# Altium integrated library Linear Technology Power Management Power Control.IntLib: 661 symbols (part 42 of 43)
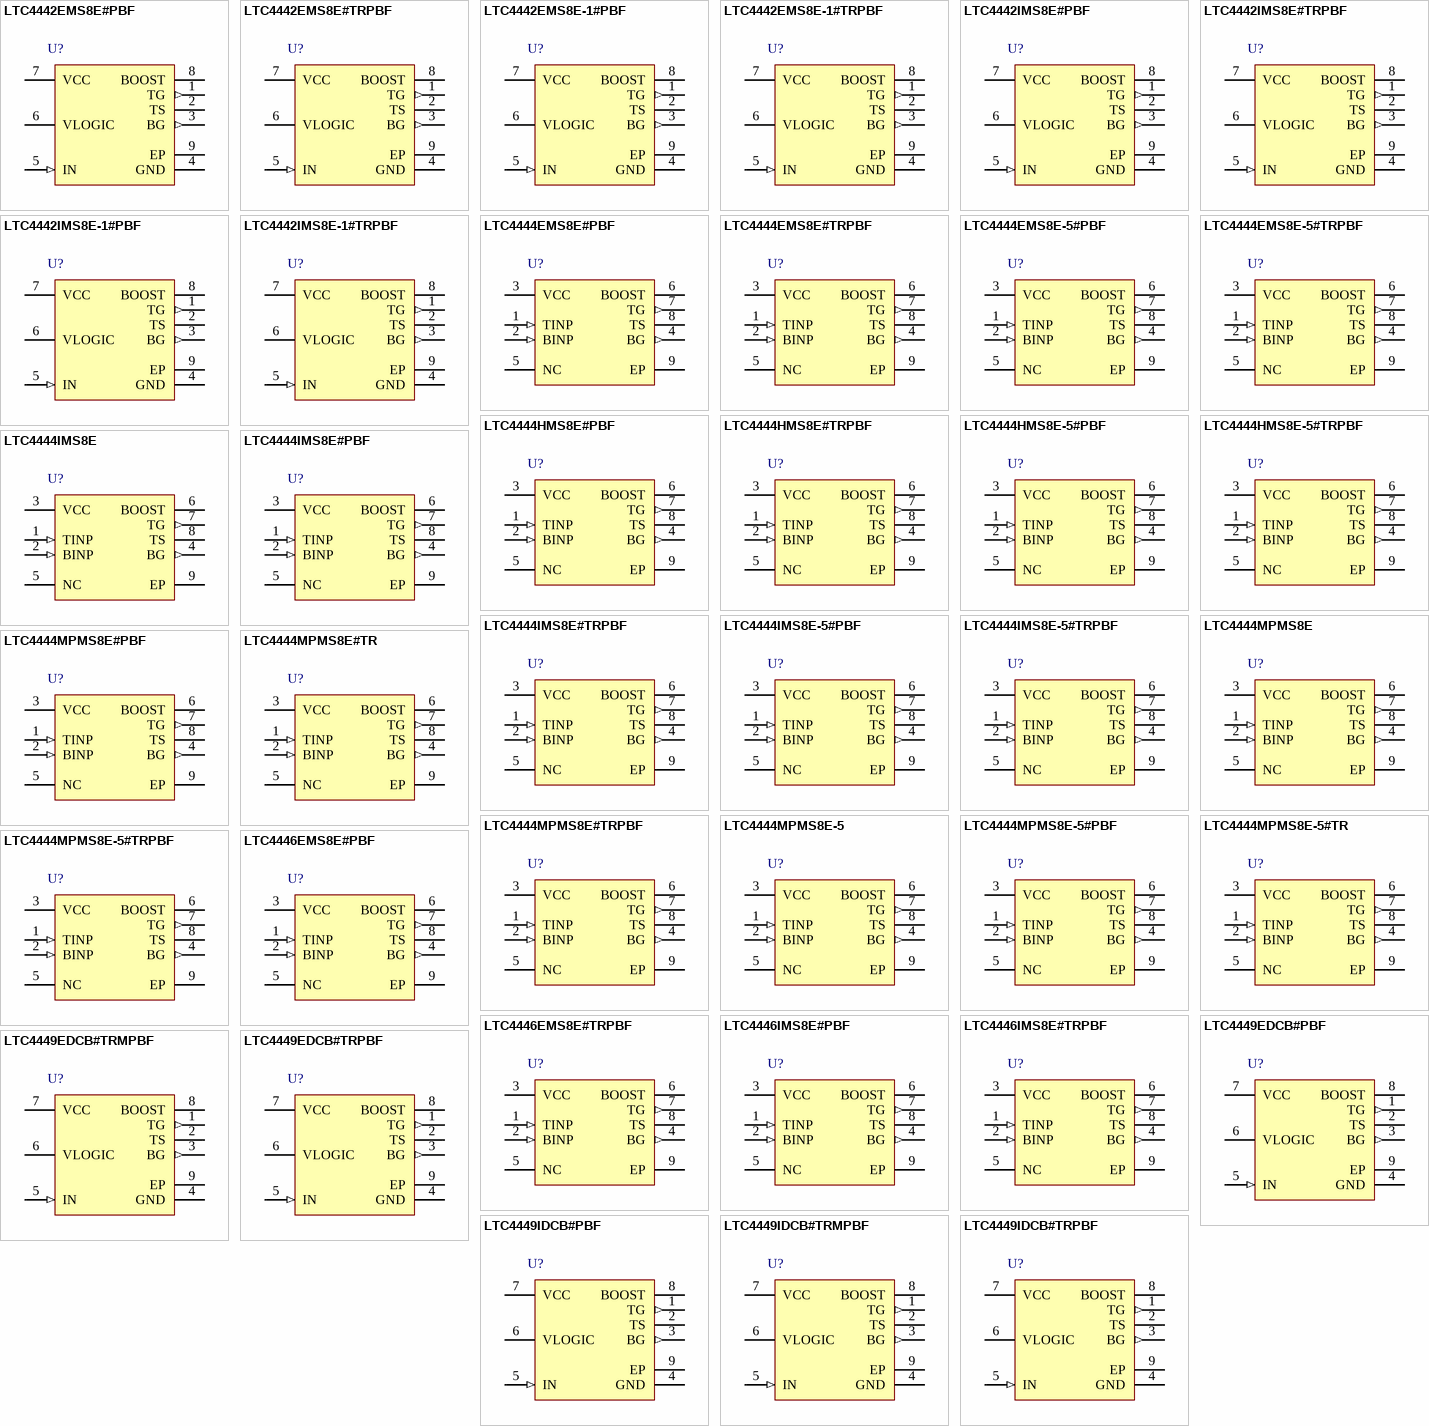
[diagram p60: symbols LTC4442EMS8E#PBF to LTC4449IDCB#TRPBF]

## LTC4442IMS8E-1#PBF
designator U?
High Speed Synchronous N-Channel MOSFET Driver, 6.2 V Undervoltage Lockout Threshold, 38 V Vin MAX, 8-pin SOP (MS8E-8), -40 to 85 degC, Pb-Free; Manufacturer: Linear Technology; PartNumber: LTC4442IMS8E-1#PBF; DatasheetVersion: Rev. B; PackageVersion: Rev. E; PackageReference: MS8E-8; PackageDescription: 8-Pin Plastic MSOP, Exposed Die Pad, Body 3 x 3 mm, Pitch 0.65 mm; Supplier 1: Digi-Key; Supplier Part Number 1: LTC4442IMS8E-1#PBF-ND; RoHS: TRUE; Mounting Technology: Surface Mount; ComponentLink1Description: Manufacturer URL; ComponentLink1URL: http://www.linear.com/; ComponentLink2Description: Datasheet; ComponentLink2URL: http://cds.linear.com/docs/en/datasheet/4442fb.pdf; ComponentLink3Description: Package Specification; ComponentLink3URL: http://cds.linear.com/docs/en/datasheet/4070fc.pdf
footprint LT-MS8E-8-2060X1830TP_N (SOP, 8-Leads, Body 3.1x3.1mm, Pitch 0.65mm, Thermal Pad 2.162x1.932mm, IPC Medium Density)
footprint LT-MS8E-8-2060X1830TP_L (SOP, 8-Leads, Body 3.1x3.1mm, Pitch 0.65mm, Thermal Pad 2.162x1.932mm, IPC High Density)
footprint LT-MS8E-8-2060X1830TP_M (SOP, 8-Leads, Body 3.1x3.1mm, Pitch 0.65mm, Thermal Pad 2.162x1.932mm, IPC Low Density)
pins: 1 TG (out) "High Side Gate Driver Output (Top Gate). This pin swings between TS and BOOST.", 2 TS "High Side MOSFET Source Connection (TopSource)", 3 BG (out) "Low Side Gate Driver Output (Bottom Gate).This pin swings between VCC and GND.", 4 GND (power) "Chip Ground.", 5 IN (in) "Input Signal. Input referenced to an internal supply baised off of VLOGIC (Pin 6) and GND. If this pin is floating, an internal resistive divider triggers a shutdown mode in which both BG (Pin 3) and TG (Pin 1) are pulled (See Datasheet)", 6 VLOGIC (power) "Logic Supply. This pin powers the input buffer and logic. Connect this pin to the power supply of the controller that is driving IN (Pin 5) to match input thresholds or to VCC (Pin 7) to simplify PCB routing", 7 VCC (power) "Output Driver Supply. This pin powers the low side gate driver output directly and the high side gate driver output through an external Schottky diode connected between this pin and BOOST. A low ESR ceramic bypass capacitor (See Datasheet)", 8 BOOST "High Side Bootstrapped Supply. An external capacitor should be tied between this pin and TS (Pin 2). Normally an external Schottky diode is connected between VCC (Pin 7) and this pin. Voltage swing at this pin is from VCC - (See Datasheet)", 9 EP (power) "The exposed pad must be soldered to PCB ground for optimal electrical and thermal performance"

## LTC4442IMS8E-1#TRPBF
designator U?
High Speed Synchronous N-Channel MOSFET Driver, 6.2 V Undervoltage Lockout Threshold, 38 V Vin MAX, 8-pin SOP (MS8E-8), -40 to 85 degC, Pb-Free, Tape and Reel; Manufacturer: Linear Technology; PartNumber: LTC4442IMS8E-1#TRPBF; DatasheetVersion: Rev. B; PackageVersion: Rev. E; PackageReference: MS8E-8; PackageDescription: 8-Pin Plastic MSOP, Exposed Die Pad, Body 3 x 3 mm, Pitch 0.65 mm; Supplier 1: Digi-Key; Supplier Part Number 1: LTC4442IMS8E-1#TRPBF-ND; Packing: Tape and Reel; RoHS: TRUE; Mounting Technology: Surface Mount; ComponentLink1Description: Manufacturer URL; ComponentLink1URL: http://www.linear.com/; ComponentLink2Description: Datasheet; ComponentLink2URL: http://cds.linear.com/docs/en/datasheet/4442fb.pdf; ComponentLink3Description: Package Specification; ComponentLink3URL: http://cds.linear.com/docs/en/datasheet/4070fc.pdf
footprint LT-MS8E-8-2060X1830TP_N (SOP, 8-Leads, Body 3.1x3.1mm, Pitch 0.65mm, Thermal Pad 2.162x1.932mm, IPC Medium Density)
footprint LT-MS8E-8-2060X1830TP_L (SOP, 8-Leads, Body 3.1x3.1mm, Pitch 0.65mm, Thermal Pad 2.162x1.932mm, IPC High Density)
footprint LT-MS8E-8-2060X1830TP_M (SOP, 8-Leads, Body 3.1x3.1mm, Pitch 0.65mm, Thermal Pad 2.162x1.932mm, IPC Low Density)
pins: 1 TG (out) "High Side Gate Driver Output (Top Gate). This pin swings between TS and BOOST.", 2 TS "High Side MOSFET Source Connection (TopSource)", 3 BG (out) "Low Side Gate Driver Output (Bottom Gate).This pin swings between VCC and GND.", 4 GND (power) "Chip Ground.", 5 IN (in) "Input Signal. Input referenced to an internal supply baised off of VLOGIC (Pin 6) and GND. If this pin is floating, an internal resistive divider triggers a shutdown mode in which both BG (Pin 3) and TG (Pin 1) are pulled (See Datasheet)", 6 VLOGIC (power) "Logic Supply. This pin powers the input buffer and logic. Connect this pin to the power supply of the controller that is driving IN (Pin 5) to match input thresholds or to VCC (Pin 7) to simplify PCB routing", 7 VCC (power) "Output Driver Supply. This pin powers the low side gate driver output directly and the high side gate driver output through an external Schottky diode connected between this pin and BOOST. A low ESR ceramic bypass capacitor (See Datasheet)", 8 BOOST "High Side Bootstrapped Supply. An external capacitor should be tied between this pin and TS (Pin 2). Normally an external Schottky diode is connected between VCC (Pin 7) and this pin. Voltage swing at this pin is from VCC - (See Datasheet)", 9 EP (power) "The exposed pad must be soldered to PCB ground for optimal electrical and thermal performance"

## LTC4444EMS8E#PBF
designator U?
High Voltage Synchronous N-Channel MOSFET Driver, 114 V Vin MAX, 8-pin SOP (MS8E-8-EDP), -40 to 125 degC, Pb-Free; Manufacturer: Linear Technology; PartNumber: LTC4444EMS8E#PBF; DatasheetVersion: Rev. B; PackageVersion: Rev. J, 10/2011; PackageReference: MS8E-8; PackageDescription: 8-Pin Plastic MSOP, Body 3.00 x 3.00 mm. Pitch 0.65 mm; Supplier 1: Digi-Key; Supplier Part Number 1: LTC4444EMS8E#PBF-ND; Supplier 2: Farnell; Supplier Part Number 2: 1628762; Supplier 3: Newark; Supplier Part Number 3: 75M4547; RoHS: TRUE; Mounting Technology: Surface Mount; ComponentLink1Description: Manufacturer URL; ComponentLink1URL: http://www.linear.com/; ComponentLink2Description: Datasheet; ComponentLink2URL: http://cds.linear.com/docs/en/datasheet/4444fb.pdf; ComponentLink3Description: Package Specification; ComponentLink3URL: http://cds.linear.com/docs/en/packaging/05081662_K_MS8E.pdf
footprint LT-MS8E-8-EDP_N (SOP, 8-Leads, Body 3.1x3.1mm, Pitch 0.65mm, Thermal Pad 1.88x1.68mm, IPC Medium Density)
footprint LT-MS8E-8-EDP_L (SOP, 8-Leads, Body 3.1x3.1mm, Pitch 0.65mm, Thermal Pad 1.88x1.68mm, IPC High Density)
footprint LT-MS8E-8-EDP_M (SOP, 8-Leads, Body 3.1x3.1mm, Pitch 0.65mm, Thermal Pad 1.88x1.68mm, IPC Low Density)
pins: 1 TINP (in) "High Side Input Signal. Input referenced to GND. This input controls the high side driver output (TG).", 2 BINP (in) "Low Side Input Signal. This input controls the low side driver output (BG).", 3 VCC (power) "Supply. This pin powers input buffers, logic and the low side gate driver output directly and the high side gate driver output through an external diode connected between this pin and BOOST (Pin 6). A low ESR ceramic bypass (See Datasheet)", 4 BG (out) "Low Side Gate Driver Output (Bottom Gate).This pin swings between VCC and GND.", 5 NC "No Connect. No connection required.", 6 BOOST "High Side Bootstrapped Supply. An external capacitor should be tied between this pin and TS (Pin 8). Normally, a bootstrap diode is connected between VCC (Pin 3) and this pin. Voltage swing at this pin is from VCC - VD to (See Datasheet)", 7 TG (out) "High Side Gate Driver Output (Top Gate). This pin swings between TS and BOOST.", 8 TS "High Side MOSFET Source Connection (TopSource)", 9 EP (power) "Ground. Must be soldered to PCB ground for optimal thermal performance."

## LTC4444EMS8E#TRPBF
designator U?
High Voltage Synchronous N-Channel MOSFET Driver, 114 V Vin MAX, 8-pin SOP (MS8E-8-EDP), -40 to 125 degC, Pb-Free, Tape and Reel; Manufacturer: Linear Technology; PartNumber: LTC4444EMS8E#TRPBF; DatasheetVersion: Rev. B; PackageVersion: Rev. J, 10/2011; PackageReference: MS8E-8; PackageDescription: 8-Pin Plastic MSOP, Body 3.00 x 3.00 mm. Pitch 0.65 mm; Supplier 1: Digi-Key; Supplier Part Number 1: LTC4444EMS8E#TRPBF-ND; Packing: Tape and Reel; RoHS: TRUE; Mounting Technology: Surface Mount; ComponentLink1Description: Manufacturer URL; ComponentLink1URL: http://www.linear.com/; ComponentLink2Description: Datasheet; ComponentLink2URL: http://cds.linear.com/docs/en/datasheet/4444fb.pdf; ComponentLink3Description: Package Specification; ComponentLink3URL: http://cds.linear.com/docs/en/packaging/05081662_K_MS8E.pdf
footprint LT-MS8E-8-EDP_N (SOP, 8-Leads, Body 3.1x3.1mm, Pitch 0.65mm, Thermal Pad 1.88x1.68mm, IPC Medium Density)
footprint LT-MS8E-8-EDP_L (SOP, 8-Leads, Body 3.1x3.1mm, Pitch 0.65mm, Thermal Pad 1.88x1.68mm, IPC High Density)
footprint LT-MS8E-8-EDP_M (SOP, 8-Leads, Body 3.1x3.1mm, Pitch 0.65mm, Thermal Pad 1.88x1.68mm, IPC Low Density)
pins: 1 TINP (in) "High Side Input Signal. Input referenced to GND. This input controls the high side driver output (TG).", 2 BINP (in) "Low Side Input Signal. This input controls the low side driver output (BG).", 3 VCC (power) "Supply. This pin powers input buffers, logic and the low side gate driver output directly and the high side gate driver output through an external diode connected between this pin and BOOST (Pin 6). A low ESR ceramic bypass (See Datasheet)", 4 BG (out) "Low Side Gate Driver Output (Bottom Gate).This pin swings between VCC and GND.", 5 NC "No Connect. No connection required.", 6 BOOST "High Side Bootstrapped Supply. An external capacitor should be tied between this pin and TS (Pin 8). Normally, a bootstrap diode is connected between VCC (Pin 3) and this pin. Voltage swing at this pin is from VCC - VD to (See Datasheet)", 7 TG (out) "High Side Gate Driver Output (Top Gate). This pin swings between TS and BOOST.", 8 TS "High Side MOSFET Source Connection (TopSource)", 9 EP (power) "Ground. Must be soldered to PCB ground for optimal thermal performance."

## LTC4444EMS8E-5#PBF
designator U?
High Voltage Synchronous N-Channel MOSFET Driver, 114 V Vin MAX, 8-pin SOP (MS8E-8-EDP), -40 to 125 degC, Pb-Free; Manufacturer: Linear Technology; PartNumber: LTC4444EMS8E-5#PBF; DatasheetVersion: Rev. C; PackageVersion: Rev. J, 10/2011; PackageReference: MS8E-8; PackageDescription: 8-Pin Plastic MSOP, Body 3.00 x 3.00 mm. Pitch 0.65 mm; Supplier 1: Digi-Key; Supplier Part Number 1: LTC4444EMS8E-5#PBF-ND; Supplier 2: Farnell; Supplier Part Number 2: 2294863; Supplier 3: Newark; Supplier Part Number 3: 01N6425; RoHS: TRUE; Mounting Technology: Surface Mount; ComponentLink1Description: Manufacturer URL; ComponentLink1URL: http://www.linear.com/; ComponentLink2Description: Datasheet; ComponentLink2URL: http://cds.linear.com/docs/en/datasheet/44445fc.pdf; ComponentLink3Description: Package Specification; ComponentLink3URL: http://cds.linear.com/docs/en/packaging/05081662_K_MS8E.pdf
footprint LT-MS8E-8-EDP_N (SOP, 8-Leads, Body 3.1x3.1mm, Pitch 0.65mm, Thermal Pad 1.88x1.68mm, IPC Medium Density)
footprint LT-MS8E-8-EDP_L (SOP, 8-Leads, Body 3.1x3.1mm, Pitch 0.65mm, Thermal Pad 1.88x1.68mm, IPC High Density)
footprint LT-MS8E-8-EDP_M (SOP, 8-Leads, Body 3.1x3.1mm, Pitch 0.65mm, Thermal Pad 1.88x1.68mm, IPC Low Density)
pins: 1 TINP (in) "High Side Input Signal. Input referenced to GND. This input controls the high side driver output (TG).", 2 BINP (in) "Low Side Input Signal. This input controls the low side driver output (BG).", 3 VCC (power) "Supply. This pin powers input buffers, logic and the low side gate driver output directly and the high side gate driver output through an external diode connected between this pin and BOOST (Pin 6). A low ESR ceramic bypass (See Datasheet)", 4 BG (out) "Low Side Gate Driver Output (Bottom Gate).This pin swings between VCC and GND.", 5 NC "No Connect. No connection required.", 6 BOOST "High Side Bootstrapped Supply. An external capacitor should be tied between this pin and TS (Pin 8). Normally, a bootstrap diode is connected between VCC (Pin 3) and this pin. Voltage swing at this pin is from VCC - VD to (See Datasheet)", 7 TG (out) "High Side Gate Driver Output (Top Gate). This pin swings between TS and BOOST.", 8 TS "High Side MOSFET Source Connection (TopSource)", 9 EP (power) "Ground. Must be soldered to PCB ground for optimal thermal performance."

## LTC4444EMS8E-5#TRPBF
designator U?
High Voltage Synchronous N-Channel MOSFET Driver, 114 V Vin MAX, 8-pin SOP (MS8E-8-EDP), -40 to 125 degC, Pb-Free, Tape and Reel; Manufacturer: Linear Technology; PartNumber: LTC4444EMS8E-5#TRPBF; DatasheetVersion: Rev. C; PackageVersion: Rev. J, 10/2011; PackageReference: MS8E-8; PackageDescription: 8-Pin Plastic MSOP, Body 3.00 x 3.00 mm. Pitch 0.65 mm; Supplier 1: Digi-Key; Supplier Part Number 1: LTC4444EMS8E-5#TRPBF-ND; Supplier 2: Newark; Supplier Part Number 2: 01N6426; Packing: Tape and Reel; RoHS: TRUE; Mounting Technology: Surface Mount; ComponentLink1Description: Manufacturer URL; ComponentLink1URL: http://www.linear.com/; ComponentLink2Description: Datasheet; ComponentLink2URL: http://cds.linear.com/docs/en/datasheet/44445fc.pdf; ComponentLink3Description: Package Specification; ComponentLink3URL: http://cds.linear.com/docs/en/packaging/05081662_K_MS8E.pdf
footprint LT-MS8E-8-EDP_N (SOP, 8-Leads, Body 3.1x3.1mm, Pitch 0.65mm, Thermal Pad 1.88x1.68mm, IPC Medium Density)
footprint LT-MS8E-8-EDP_L (SOP, 8-Leads, Body 3.1x3.1mm, Pitch 0.65mm, Thermal Pad 1.88x1.68mm, IPC High Density)
footprint LT-MS8E-8-EDP_M (SOP, 8-Leads, Body 3.1x3.1mm, Pitch 0.65mm, Thermal Pad 1.88x1.68mm, IPC Low Density)
pins: 1 TINP (in) "High Side Input Signal. Input referenced to GND. This input controls the high side driver output (TG).", 2 BINP (in) "Low Side Input Signal. This input controls the low side driver output (BG).", 3 VCC (power) "Supply. This pin powers input buffers, logic and the low side gate driver output directly and the high side gate driver output through an external diode connected between this pin and BOOST (Pin 6). A low ESR ceramic bypass (See Datasheet)", 4 BG (out) "Low Side Gate Driver Output (Bottom Gate).This pin swings between VCC and GND.", 5 NC "No Connect. No connection required.", 6 BOOST "High Side Bootstrapped Supply. An external capacitor should be tied between this pin and TS (Pin 8). Normally, a bootstrap diode is connected between VCC (Pin 3) and this pin. Voltage swing at this pin is from VCC - VD to (See Datasheet)", 7 TG (out) "High Side Gate Driver Output (Top Gate). This pin swings between TS and BOOST.", 8 TS "High Side MOSFET Source Connection (TopSource)", 9 EP (power) "Ground. Must be soldered to PCB ground for optimal thermal performance."

## LTC4444HMS8E#PBF
designator U?
High Voltage Synchronous N-Channel MOSFET Driver, 114 V Vin MAX, 8-pin SOP (MS8E-8-EDP), -40 to 150 degC, Pb-Free; Manufacturer: Linear Technology; PartNumber: LTC4444HMS8E#PBF; DatasheetVersion: Rev. B; PackageVersion: Rev. J, 10/2011; PackageReference: MS8E-8; PackageDescription: 8-Pin Plastic MSOP, Body 3.00 x 3.00 mm. Pitch 0.65 mm; Supplier 1: Digi-Key; Supplier Part Number 1: LTC4444HMS8E#PBF-ND; RoHS: TRUE; Mounting Technology: Surface Mount; ComponentLink1Description: Manufacturer URL; ComponentLink1URL: http://www.linear.com/; ComponentLink2Description: Datasheet; ComponentLink2URL: http://cds.linear.com/docs/en/datasheet/4444fb.pdf; ComponentLink3Description: Package Specification; ComponentLink3URL: http://cds.linear.com/docs/en/packaging/05081662_K_MS8E.pdf
footprint LT-MS8E-8-EDP_N (SOP, 8-Leads, Body 3.1x3.1mm, Pitch 0.65mm, Thermal Pad 1.88x1.68mm, IPC Medium Density)
footprint LT-MS8E-8-EDP_L (SOP, 8-Leads, Body 3.1x3.1mm, Pitch 0.65mm, Thermal Pad 1.88x1.68mm, IPC High Density)
footprint LT-MS8E-8-EDP_M (SOP, 8-Leads, Body 3.1x3.1mm, Pitch 0.65mm, Thermal Pad 1.88x1.68mm, IPC Low Density)
pins: 1 TINP (in) "High Side Input Signal. Input referenced to GND. This input controls the high side driver output (TG).", 2 BINP (in) "Low Side Input Signal. This input controls the low side driver output (BG).", 3 VCC (power) "Supply. This pin powers input buffers, logic and the low side gate driver output directly and the high side gate driver output through an external diode connected between this pin and BOOST (Pin 6). A low ESR ceramic bypass (See Datasheet)", 4 BG (out) "Low Side Gate Driver Output (Bottom Gate).This pin swings between VCC and GND.", 5 NC "No Connect. No connection required.", 6 BOOST "High Side Bootstrapped Supply. An external capacitor should be tied between this pin and TS (Pin 8). Normally, a bootstrap diode is connected between VCC (Pin 3) and this pin. Voltage swing at this pin is from VCC - VD to (See Datasheet)", 7 TG (out) "High Side Gate Driver Output (Top Gate). This pin swings between TS and BOOST.", 8 TS "High Side MOSFET Source Connection (TopSource)", 9 EP (power) "Ground. Must be soldered to PCB ground for optimal thermal performance."

## LTC4444HMS8E#TRPBF
designator U?
High Voltage Synchronous N-Channel MOSFET Driver, 114 V Vin MAX, 8-pin SOP (MS8E-8-EDP), -40 to 150 degC, Pb-Free, Tape and Reel; Manufacturer: Linear Technology; PartNumber: LTC4444HMS8E#TRPBF; DatasheetVersion: Rev. B; PackageVersion: Rev. J, 10/2011; PackageReference: MS8E-8; PackageDescription: 8-Pin Plastic MSOP, Body 3.00 x 3.00 mm. Pitch 0.65 mm; Supplier 1: Digi-Key; Supplier Part Number 1: LTC4444HMS8E#TRPBF-ND; Packing: Tape and Reel; RoHS: TRUE; Mounting Technology: Surface Mount; ComponentLink1Description: Manufacturer URL; ComponentLink1URL: http://www.linear.com/; ComponentLink2Description: Datasheet; ComponentLink2URL: http://cds.linear.com/docs/en/datasheet/4444fb.pdf; ComponentLink3Description: Package Specification; ComponentLink3URL: http://cds.linear.com/docs/en/packaging/05081662_K_MS8E.pdf
footprint LT-MS8E-8-EDP_N (SOP, 8-Leads, Body 3.1x3.1mm, Pitch 0.65mm, Thermal Pad 1.88x1.68mm, IPC Medium Density)
footprint LT-MS8E-8-EDP_L (SOP, 8-Leads, Body 3.1x3.1mm, Pitch 0.65mm, Thermal Pad 1.88x1.68mm, IPC High Density)
footprint LT-MS8E-8-EDP_M (SOP, 8-Leads, Body 3.1x3.1mm, Pitch 0.65mm, Thermal Pad 1.88x1.68mm, IPC Low Density)
pins: 1 TINP (in) "High Side Input Signal. Input referenced to GND. This input controls the high side driver output (TG).", 2 BINP (in) "Low Side Input Signal. This input controls the low side driver output (BG).", 3 VCC (power) "Supply. This pin powers input buffers, logic and the low side gate driver output directly and the high side gate driver output through an external diode connected between this pin and BOOST (Pin 6). A low ESR ceramic bypass (See Datasheet)", 4 BG (out) "Low Side Gate Driver Output (Bottom Gate).This pin swings between VCC and GND.", 5 NC "No Connect. No connection required.", 6 BOOST "High Side Bootstrapped Supply. An external capacitor should be tied between this pin and TS (Pin 8). Normally, a bootstrap diode is connected between VCC (Pin 3) and this pin. Voltage swing at this pin is from VCC - VD to (See Datasheet)", 7 TG (out) "High Side Gate Driver Output (Top Gate). This pin swings between TS and BOOST.", 8 TS "High Side MOSFET Source Connection (TopSource)", 9 EP (power) "Ground. Must be soldered to PCB ground for optimal thermal performance."

## LTC4444HMS8E-5#PBF
designator U?
High Voltage Synchronous N-Channel MOSFET Driver, 114 V Vin MAX, 8-pin SOP (MS8E-8-EDP), -40 to 150 degC, Pb-Free; Manufacturer: Linear Technology; PartNumber: LTC4444HMS8E-5#PBF; DatasheetVersion: Rev. C; PackageVersion: Rev. J, 10/2011; PackageReference: MS8E-8; PackageDescription: 8-Pin Plastic MSOP, Body 3.00 x 3.00 mm. Pitch 0.65 mm; Supplier 1: Digi-Key; Supplier Part Number 1: LTC4444HMS8E-5#PBF-ND; Supplier 2: Newark; Supplier Part Number 2: 27T4243; RoHS: TRUE; Mounting Technology: Surface Mount; ComponentLink1Description: Manufacturer URL; ComponentLink1URL: http://www.linear.com/; ComponentLink2Description: Datasheet; ComponentLink2URL: http://cds.linear.com/docs/en/datasheet/44445fc.pdf; ComponentLink3Description: Package Specification; ComponentLink3URL: http://cds.linear.com/docs/en/packaging/05081662_K_MS8E.pdf
footprint LT-MS8E-8-EDP_N (SOP, 8-Leads, Body 3.1x3.1mm, Pitch 0.65mm, Thermal Pad 1.88x1.68mm, IPC Medium Density)
footprint LT-MS8E-8-EDP_L (SOP, 8-Leads, Body 3.1x3.1mm, Pitch 0.65mm, Thermal Pad 1.88x1.68mm, IPC High Density)
footprint LT-MS8E-8-EDP_M (SOP, 8-Leads, Body 3.1x3.1mm, Pitch 0.65mm, Thermal Pad 1.88x1.68mm, IPC Low Density)
pins: 1 TINP (in) "High Side Input Signal. Input referenced to GND. This input controls the high side driver output (TG).", 2 BINP (in) "Low Side Input Signal. This input controls the low side driver output (BG).", 3 VCC (power) "Supply. This pin powers input buffers, logic and the low side gate driver output directly and the high side gate driver output through an external diode connected between this pin and BOOST (Pin 6). A low ESR ceramic bypass (See Datasheet)", 4 BG (out) "Low Side Gate Driver Output (Bottom Gate).This pin swings between VCC and GND.", 5 NC "No Connect. No connection required.", 6 BOOST "High Side Bootstrapped Supply. An external capacitor should be tied between this pin and TS (Pin 8). Normally, a bootstrap diode is connected between VCC (Pin 3) and this pin. Voltage swing at this pin is from VCC - VD to (See Datasheet)", 7 TG (out) "High Side Gate Driver Output (Top Gate). This pin swings between TS and BOOST.", 8 TS "High Side MOSFET Source Connection (TopSource)", 9 EP (power) "Ground. Must be soldered to PCB ground for optimal thermal performance."

## LTC4444HMS8E-5#TRPBF
designator U?
High Voltage Synchronous N-Channel MOSFET Driver, 114 V Vin MAX, 8-pin SOP (MS8E-8-EDP), -40 to 150 degC, Pb-Free, Tape and Reel; Manufacturer: Linear Technology; PartNumber: LTC4444HMS8E-5#TRPBF; DatasheetVersion: Rev. C; PackageVersion: Rev. J, 10/2011; PackageReference: MS8E-8; PackageDescription: 8-Pin Plastic MSOP, Body 3.00 x 3.00 mm. Pitch 0.65 mm; Supplier 1: Digi-Key; Supplier Part Number 1: LTC4444HMS8E-5#TRPBF-ND; Packing: Tape and Reel; RoHS: TRUE; Mounting Technology: Surface Mount; ComponentLink1Description: Manufacturer URL; ComponentLink1URL: http://www.linear.com/; ComponentLink2Description: Datasheet; ComponentLink2URL: http://cds.linear.com/docs/en/datasheet/44445fc.pdf; ComponentLink3Description: Package Specification; ComponentLink3URL: http://cds.linear.com/docs/en/packaging/05081662_K_MS8E.pdf
footprint LT-MS8E-8-EDP_N (SOP, 8-Leads, Body 3.1x3.1mm, Pitch 0.65mm, Thermal Pad 1.88x1.68mm, IPC Medium Density)
footprint LT-MS8E-8-EDP_L (SOP, 8-Leads, Body 3.1x3.1mm, Pitch 0.65mm, Thermal Pad 1.88x1.68mm, IPC High Density)
footprint LT-MS8E-8-EDP_M (SOP, 8-Leads, Body 3.1x3.1mm, Pitch 0.65mm, Thermal Pad 1.88x1.68mm, IPC Low Density)
pins: 1 TINP (in) "High Side Input Signal. Input referenced to GND. This input controls the high side driver output (TG).", 2 BINP (in) "Low Side Input Signal. This input controls the low side driver output (BG).", 3 VCC (power) "Supply. This pin powers input buffers, logic and the low side gate driver output directly and the high side gate driver output through an external diode connected between this pin and BOOST (Pin 6). A low ESR ceramic bypass (See Datasheet)", 4 BG (out) "Low Side Gate Driver Output (Bottom Gate).This pin swings between VCC and GND.", 5 NC "No Connect. No connection required.", 6 BOOST "High Side Bootstrapped Supply. An external capacitor should be tied between this pin and TS (Pin 8). Normally, a bootstrap diode is connected between VCC (Pin 3) and this pin. Voltage swing at this pin is from VCC - VD to (See Datasheet)", 7 TG (out) "High Side Gate Driver Output (Top Gate). This pin swings between TS and BOOST.", 8 TS "High Side MOSFET Source Connection (TopSource)", 9 EP (power) "Ground. Must be soldered to PCB ground for optimal thermal performance."

## LTC4444IMS8E
designator U?
High Voltage Synchronous N-Channel MOSFET Driver, 114 V Vin MAX, 8-pin SOP (MS8E-8-EDP), -40 to 125 degC; Manufacturer: Linear Technology; PartNumber: LTC4444IMS8E; DatasheetVersion: Rev. B; PackageVersion: Rev. J, 10/2011; PackageReference: MS8E-8; PackageDescription: 8-Pin Plastic MSOP, Body 3.00 x 3.00 mm. Pitch 0.65 mm; Supplier 1: Newark; Supplier Part Number 1: 12P7589; RoHS: FALSE; Mounting Technology: Surface Mount; ComponentLink1Description: Manufacturer URL; ComponentLink1URL: http://www.linear.com/; ComponentLink2Description: Datasheet; ComponentLink2URL: http://cds.linear.com/docs/en/datasheet/4444fb.pdf; ComponentLink3Description: Package Specification; ComponentLink3URL: http://cds.linear.com/docs/en/packaging/05081662_K_MS8E.pdf
footprint LT-MS8E-8-EDP_N (SOP, 8-Leads, Body 3.1x3.1mm, Pitch 0.65mm, Thermal Pad 1.88x1.68mm, IPC Medium Density)
footprint LT-MS8E-8-EDP_L (SOP, 8-Leads, Body 3.1x3.1mm, Pitch 0.65mm, Thermal Pad 1.88x1.68mm, IPC High Density)
footprint LT-MS8E-8-EDP_M (SOP, 8-Leads, Body 3.1x3.1mm, Pitch 0.65mm, Thermal Pad 1.88x1.68mm, IPC Low Density)
pins: 1 TINP (in) "High Side Input Signal. Input referenced to GND. This input controls the high side driver output (TG).", 2 BINP (in) "Low Side Input Signal. This input controls the low side driver output (BG).", 3 VCC (power) "Supply. This pin powers input buffers, logic and the low side gate driver output directly and the high side gate driver output through an external diode connected between this pin and BOOST (Pin 6). A low ESR ceramic bypass (See Datasheet)", 4 BG (out) "Low Side Gate Driver Output (Bottom Gate).This pin swings between VCC and GND.", 5 NC "No Connect. No connection required.", 6 BOOST "High Side Bootstrapped Supply. An external capacitor should be tied between this pin and TS (Pin 8). Normally, a bootstrap diode is connected between VCC (Pin 3) and this pin. Voltage swing at this pin is from VCC - VD to (See Datasheet)", 7 TG (out) "High Side Gate Driver Output (Top Gate). This pin swings between TS and BOOST.", 8 TS "High Side MOSFET Source Connection (TopSource)", 9 EP (power) "Ground. Must be soldered to PCB ground for optimal thermal performance."

## LTC4444IMS8E#PBF
designator U?
High Voltage Synchronous N-Channel MOSFET Driver, 114 V Vin MAX, 8-pin SOP (MS8E-8-EDP), -40 to 125 degC, Pb-Free; Manufacturer: Linear Technology; PartNumber: LTC4444IMS8E#PBF; DatasheetVersion: Rev. B; PackageVersion: Rev. J, 10/2011; PackageReference: MS8E-8; PackageDescription: 8-Pin Plastic MSOP, Body 3.00 x 3.00 mm. Pitch 0.65 mm; Supplier 1: Digi-Key; Supplier Part Number 1: LTC4444IMS8E#PBF-ND; RoHS: TRUE; Mounting Technology: Surface Mount; ComponentLink1Description: Manufacturer URL; ComponentLink1URL: http://www.linear.com/; ComponentLink2Description: Datasheet; ComponentLink2URL: http://cds.linear.com/docs/en/datasheet/4444fb.pdf; ComponentLink3Description: Package Specification; ComponentLink3URL: http://cds.linear.com/docs/en/packaging/05081662_K_MS8E.pdf
footprint LT-MS8E-8-EDP_N (SOP, 8-Leads, Body 3.1x3.1mm, Pitch 0.65mm, Thermal Pad 1.88x1.68mm, IPC Medium Density)
footprint LT-MS8E-8-EDP_L (SOP, 8-Leads, Body 3.1x3.1mm, Pitch 0.65mm, Thermal Pad 1.88x1.68mm, IPC High Density)
footprint LT-MS8E-8-EDP_M (SOP, 8-Leads, Body 3.1x3.1mm, Pitch 0.65mm, Thermal Pad 1.88x1.68mm, IPC Low Density)
pins: 1 TINP (in) "High Side Input Signal. Input referenced to GND. This input controls the high side driver output (TG).", 2 BINP (in) "Low Side Input Signal. This input controls the low side driver output (BG).", 3 VCC (power) "Supply. This pin powers input buffers, logic and the low side gate driver output directly and the high side gate driver output through an external diode connected between this pin and BOOST (Pin 6). A low ESR ceramic bypass (See Datasheet)", 4 BG (out) "Low Side Gate Driver Output (Bottom Gate).This pin swings between VCC and GND.", 5 NC "No Connect. No connection required.", 6 BOOST "High Side Bootstrapped Supply. An external capacitor should be tied between this pin and TS (Pin 8). Normally, a bootstrap diode is connected between VCC (Pin 3) and this pin. Voltage swing at this pin is from VCC - VD to (See Datasheet)", 7 TG (out) "High Side Gate Driver Output (Top Gate). This pin swings between TS and BOOST.", 8 TS "High Side MOSFET Source Connection (TopSource)", 9 EP (power) "Ground. Must be soldered to PCB ground for optimal thermal performance."

## LTC4444IMS8E#TRPBF
designator U?
High Voltage Synchronous N-Channel MOSFET Driver, 114 V Vin MAX, 8-pin SOP (MS8E-8-EDP), -40 to 125 degC, Pb-Free, Tape and Reel; Manufacturer: Linear Technology; PartNumber: LTC4444IMS8E#TRPBF; DatasheetVersion: Rev. B; PackageVersion: Rev. J, 10/2011; PackageReference: MS8E-8; PackageDescription: 8-Pin Plastic MSOP, Body 3.00 x 3.00 mm. Pitch 0.65 mm; Supplier 1: Digi-Key; Supplier Part Number 1: LTC4444IMS8E#TRPBF-ND; Packing: Tape and Reel; RoHS: TRUE; Mounting Technology: Surface Mount; ComponentLink1Description: Manufacturer URL; ComponentLink1URL: http://www.linear.com/; ComponentLink2Description: Datasheet; ComponentLink2URL: http://cds.linear.com/docs/en/datasheet/4444fb.pdf; ComponentLink3Description: Package Specification; ComponentLink3URL: http://cds.linear.com/docs/en/packaging/05081662_K_MS8E.pdf
footprint LT-MS8E-8-EDP_N (SOP, 8-Leads, Body 3.1x3.1mm, Pitch 0.65mm, Thermal Pad 1.88x1.68mm, IPC Medium Density)
footprint LT-MS8E-8-EDP_L (SOP, 8-Leads, Body 3.1x3.1mm, Pitch 0.65mm, Thermal Pad 1.88x1.68mm, IPC High Density)
footprint LT-MS8E-8-EDP_M (SOP, 8-Leads, Body 3.1x3.1mm, Pitch 0.65mm, Thermal Pad 1.88x1.68mm, IPC Low Density)
pins: 1 TINP (in) "High Side Input Signal. Input referenced to GND. This input controls the high side driver output (TG).", 2 BINP (in) "Low Side Input Signal. This input controls the low side driver output (BG).", 3 VCC (power) "Supply. This pin powers input buffers, logic and the low side gate driver output directly and the high side gate driver output through an external diode connected between this pin and BOOST (Pin 6). A low ESR ceramic bypass (See Datasheet)", 4 BG (out) "Low Side Gate Driver Output (Bottom Gate).This pin swings between VCC and GND.", 5 NC "No Connect. No connection required.", 6 BOOST "High Side Bootstrapped Supply. An external capacitor should be tied between this pin and TS (Pin 8). Normally, a bootstrap diode is connected between VCC (Pin 3) and this pin. Voltage swing at this pin is from VCC - VD to (See Datasheet)", 7 TG (out) "High Side Gate Driver Output (Top Gate). This pin swings between TS and BOOST.", 8 TS "High Side MOSFET Source Connection (TopSource)", 9 EP (power) "Ground. Must be soldered to PCB ground for optimal thermal performance."

## LTC4444IMS8E-5#PBF
designator U?
High Voltage Synchronous N-Channel MOSFET Driver, 114 V Vin MAX, 8-pin SOP (MS8E-8-EDP), -40 to 125 degC, Pb-Free; Manufacturer: Linear Technology; PartNumber: LTC4444IMS8E-5#PBF; DatasheetVersion: Rev. C; PackageVersion: Rev. J, 10/2011; PackageReference: MS8E-8; PackageDescription: 8-Pin Plastic MSOP, Body 3.00 x 3.00 mm. Pitch 0.65 mm; Supplier 1: Digi-Key; Supplier Part Number 1: LTC4444IMS8E-5#PBF-ND; Supplier 2: Farnell; Supplier Part Number 2: 2294865; Supplier 3: Newark; Supplier Part Number 3: 01N6427; RoHS: TRUE; Mounting Technology: Surface Mount; ComponentLink1Description: Manufacturer URL; ComponentLink1URL: http://www.linear.com/; ComponentLink2Description: Datasheet; ComponentLink2URL: http://cds.linear.com/docs/en/datasheet/44445fc.pdf; ComponentLink3Description: Package Specification; ComponentLink3URL: http://cds.linear.com/docs/en/packaging/05081662_K_MS8E.pdf
footprint LT-MS8E-8-EDP_N (SOP, 8-Leads, Body 3.1x3.1mm, Pitch 0.65mm, Thermal Pad 1.88x1.68mm, IPC Medium Density)
footprint LT-MS8E-8-EDP_L (SOP, 8-Leads, Body 3.1x3.1mm, Pitch 0.65mm, Thermal Pad 1.88x1.68mm, IPC High Density)
footprint LT-MS8E-8-EDP_M (SOP, 8-Leads, Body 3.1x3.1mm, Pitch 0.65mm, Thermal Pad 1.88x1.68mm, IPC Low Density)
pins: 1 TINP (in) "High Side Input Signal. Input referenced to GND. This input controls the high side driver output (TG).", 2 BINP (in) "Low Side Input Signal. This input controls the low side driver output (BG).", 3 VCC (power) "Supply. This pin powers input buffers, logic and the low side gate driver output directly and the high side gate driver output through an external diode connected between this pin and BOOST (Pin 6). A low ESR ceramic bypass (See Datasheet)", 4 BG (out) "Low Side Gate Driver Output (Bottom Gate).This pin swings between VCC and GND.", 5 NC "No Connect. No connection required.", 6 BOOST "High Side Bootstrapped Supply. An external capacitor should be tied between this pin and TS (Pin 8). Normally, a bootstrap diode is connected between VCC (Pin 3) and this pin. Voltage swing at this pin is from VCC - VD to (See Datasheet)", 7 TG (out) "High Side Gate Driver Output (Top Gate). This pin swings between TS and BOOST.", 8 TS "High Side MOSFET Source Connection (TopSource)", 9 EP (power) "Ground. Must be soldered to PCB ground for optimal thermal performance."

## LTC4444IMS8E-5#TRPBF
designator U?
High Voltage Synchronous N-Channel MOSFET Driver, 114 V Vin MAX, 8-pin SOP (MS8E-8-EDP), -40 to 125 degC, Pb-Free, Tape and Reel; Manufacturer: Linear Technology; PartNumber: LTC4444IMS8E-5#TRPBF; DatasheetVersion: Rev. C; PackageVersion: Rev. J, 10/2011; PackageReference: MS8E-8; PackageDescription: 8-Pin Plastic MSOP, Body 3.00 x 3.00 mm. Pitch 0.65 mm; Supplier 1: Digi-Key; Supplier Part Number 1: LTC4444IMS8E-5#TRPBF-ND; Supplier 2: Newark; Supplier Part Number 2: 01N6428; Packing: Tape and Reel; RoHS: TRUE; Mounting Technology: Surface Mount; ComponentLink1Description: Manufacturer URL; ComponentLink1URL: http://www.linear.com/; ComponentLink2Description: Datasheet; ComponentLink2URL: http://cds.linear.com/docs/en/datasheet/44445fc.pdf; ComponentLink3Description: Package Specification; ComponentLink3URL: http://cds.linear.com/docs/en/packaging/05081662_K_MS8E.pdf
footprint LT-MS8E-8-EDP_N (SOP, 8-Leads, Body 3.1x3.1mm, Pitch 0.65mm, Thermal Pad 1.88x1.68mm, IPC Medium Density)
footprint LT-MS8E-8-EDP_L (SOP, 8-Leads, Body 3.1x3.1mm, Pitch 0.65mm, Thermal Pad 1.88x1.68mm, IPC High Density)
footprint LT-MS8E-8-EDP_M (SOP, 8-Leads, Body 3.1x3.1mm, Pitch 0.65mm, Thermal Pad 1.88x1.68mm, IPC Low Density)
pins: 1 TINP (in) "High Side Input Signal. Input referenced to GND. This input controls the high side driver output (TG).", 2 BINP (in) "Low Side Input Signal. This input controls the low side driver output (BG).", 3 VCC (power) "Supply. This pin powers input buffers, logic and the low side gate driver output directly and the high side gate driver output through an external diode connected between this pin and BOOST (Pin 6). A low ESR ceramic bypass (See Datasheet)", 4 BG (out) "Low Side Gate Driver Output (Bottom Gate).This pin swings between VCC and GND.", 5 NC "No Connect. No connection required.", 6 BOOST "High Side Bootstrapped Supply. An external capacitor should be tied between this pin and TS (Pin 8). Normally, a bootstrap diode is connected between VCC (Pin 3) and this pin. Voltage swing at this pin is from VCC - VD to (See Datasheet)", 7 TG (out) "High Side Gate Driver Output (Top Gate). This pin swings between TS and BOOST.", 8 TS "High Side MOSFET Source Connection (TopSource)", 9 EP (power) "Ground. Must be soldered to PCB ground for optimal thermal performance."

## LTC4444MPMS8E
designator U?
High Voltage Synchronous N-Channel MOSFET Driver, 114 V Vin MAX, 8-pin SOP (MS8E-8-EDP), -55 to 150 degC; Manufacturer: Linear Technology; PartNumber: LTC4444MPMS8E; DatasheetVersion: Rev. B; PackageVersion: Rev. J, 10/2011; PackageReference: MS8E-8; PackageDescription: 8-Pin Plastic MSOP, Body 3.00 x 3.00 mm. Pitch 0.65 mm; RoHS: FALSE; Mounting Technology: Surface Mount; ComponentLink1Description: Manufacturer URL; ComponentLink1URL: http://www.linear.com/; ComponentLink2Description: Datasheet; ComponentLink2URL: http://cds.linear.com/docs/en/datasheet/4444fb.pdf; ComponentLink3Description: Package Specification; ComponentLink3URL: http://cds.linear.com/docs/en/packaging/05081662_K_MS8E.pdf
footprint LT-MS8E-8-EDP_N (SOP, 8-Leads, Body 3.1x3.1mm, Pitch 0.65mm, Thermal Pad 1.88x1.68mm, IPC Medium Density)
footprint LT-MS8E-8-EDP_L (SOP, 8-Leads, Body 3.1x3.1mm, Pitch 0.65mm, Thermal Pad 1.88x1.68mm, IPC High Density)
footprint LT-MS8E-8-EDP_M (SOP, 8-Leads, Body 3.1x3.1mm, Pitch 0.65mm, Thermal Pad 1.88x1.68mm, IPC Low Density)
pins: 1 TINP (in) "High Side Input Signal. Input referenced to GND. This input controls the high side driver output (TG).", 2 BINP (in) "Low Side Input Signal. This input controls the low side driver output (BG).", 3 VCC (power) "Supply. This pin powers input buffers, logic and the low side gate driver output directly and the high side gate driver output through an external diode connected between this pin and BOOST (Pin 6). A low ESR ceramic bypass (See Datasheet)", 4 BG (out) "Low Side Gate Driver Output (Bottom Gate).This pin swings between VCC and GND.", 5 NC "No Connect. No connection required.", 6 BOOST "High Side Bootstrapped Supply. An external capacitor should be tied between this pin and TS (Pin 8). Normally, a bootstrap diode is connected between VCC (Pin 3) and this pin. Voltage swing at this pin is from VCC - VD to (See Datasheet)", 7 TG (out) "High Side Gate Driver Output (Top Gate). This pin swings between TS and BOOST.", 8 TS "High Side MOSFET Source Connection (TopSource)", 9 EP (power) "Ground. Must be soldered to PCB ground for optimal thermal performance."

## LTC4444MPMS8E#PBF
designator U?
High Voltage Synchronous N-Channel MOSFET Driver, 114 V Vin MAX, 8-pin SOP (MS8E-8-EDP), -55 to 150 degC, Pb-Free; Manufacturer: Linear Technology; PartNumber: LTC4444MPMS8E#PBF; DatasheetVersion: Rev. B; PackageVersion: Rev. J, 10/2011; PackageReference: MS8E-8; PackageDescription: 8-Pin Plastic MSOP, Body 3.00 x 3.00 mm. Pitch 0.65 mm; Supplier 1: Digi-Key; Supplier Part Number 1: LTC4444MPMS8E#PBF-ND; Supplier 2: Farnell; Supplier Part Number 2: 2115821; Supplier 3: Newark; Supplier Part Number 3: 78R8370; RoHS: TRUE; Mounting Technology: Surface Mount; ComponentLink1Description: Manufacturer URL; ComponentLink1URL: http://www.linear.com/; ComponentLink2Description: Datasheet; ComponentLink2URL: http://cds.linear.com/docs/en/datasheet/4444fb.pdf; ComponentLink3Description: Package Specification; ComponentLink3URL: http://cds.linear.com/docs/en/packaging/05081662_K_MS8E.pdf
footprint LT-MS8E-8-EDP_N (SOP, 8-Leads, Body 3.1x3.1mm, Pitch 0.65mm, Thermal Pad 1.88x1.68mm, IPC Medium Density)
footprint LT-MS8E-8-EDP_L (SOP, 8-Leads, Body 3.1x3.1mm, Pitch 0.65mm, Thermal Pad 1.88x1.68mm, IPC High Density)
footprint LT-MS8E-8-EDP_M (SOP, 8-Leads, Body 3.1x3.1mm, Pitch 0.65mm, Thermal Pad 1.88x1.68mm, IPC Low Density)
pins: 1 TINP (in) "High Side Input Signal. Input referenced to GND. This input controls the high side driver output (TG).", 2 BINP (in) "Low Side Input Signal. This input controls the low side driver output (BG).", 3 VCC (power) "Supply. This pin powers input buffers, logic and the low side gate driver output directly and the high side gate driver output through an external diode connected between this pin and BOOST (Pin 6). A low ESR ceramic bypass (See Datasheet)", 4 BG (out) "Low Side Gate Driver Output (Bottom Gate).This pin swings between VCC and GND.", 5 NC "No Connect. No connection required.", 6 BOOST "High Side Bootstrapped Supply. An external capacitor should be tied between this pin and TS (Pin 8). Normally, a bootstrap diode is connected between VCC (Pin 3) and this pin. Voltage swing at this pin is from VCC - VD to (See Datasheet)", 7 TG (out) "High Side Gate Driver Output (Top Gate). This pin swings between TS and BOOST.", 8 TS "High Side MOSFET Source Connection (TopSource)", 9 EP (power) "Ground. Must be soldered to PCB ground for optimal thermal performance."

## LTC4444MPMS8E#TR
designator U?
High Voltage Synchronous N-Channel MOSFET Driver, 114 V Vin MAX, 8-pin SOP (MS8E-8-EDP), -55 to 150 degC, Tape and Reel; Manufacturer: Linear Technology; PartNumber: LTC4444MPMS8E#TR; DatasheetVersion: Rev. B; PackageVersion: Rev. J, 10/2011; PackageReference: MS8E-8; PackageDescription: 8-Pin Plastic MSOP, Body 3.00 x 3.00 mm. Pitch 0.65 mm; Packing: Tape and Reel; RoHS: FALSE; Mounting Technology: Surface Mount; ComponentLink1Description: Manufacturer URL; ComponentLink1URL: http://www.linear.com/; ComponentLink2Description: Datasheet; ComponentLink2URL: http://cds.linear.com/docs/en/datasheet/4444fb.pdf; ComponentLink3Description: Package Specification; ComponentLink3URL: http://cds.linear.com/docs/en/packaging/05081662_K_MS8E.pdf
footprint LT-MS8E-8-EDP_N (SOP, 8-Leads, Body 3.1x3.1mm, Pitch 0.65mm, Thermal Pad 1.88x1.68mm, IPC Medium Density)
footprint LT-MS8E-8-EDP_L (SOP, 8-Leads, Body 3.1x3.1mm, Pitch 0.65mm, Thermal Pad 1.88x1.68mm, IPC High Density)
footprint LT-MS8E-8-EDP_M (SOP, 8-Leads, Body 3.1x3.1mm, Pitch 0.65mm, Thermal Pad 1.88x1.68mm, IPC Low Density)
pins: 1 TINP (in) "High Side Input Signal. Input referenced to GND. This input controls the high side driver output (TG).", 2 BINP (in) "Low Side Input Signal. This input controls the low side driver output (BG).", 3 VCC (power) "Supply. This pin powers input buffers, logic and the low side gate driver output directly and the high side gate driver output through an external diode connected between this pin and BOOST (Pin 6). A low ESR ceramic bypass (See Datasheet)", 4 BG (out) "Low Side Gate Driver Output (Bottom Gate).This pin swings between VCC and GND.", 5 NC "No Connect. No connection required.", 6 BOOST "High Side Bootstrapped Supply. An external capacitor should be tied between this pin and TS (Pin 8). Normally, a bootstrap diode is connected between VCC (Pin 3) and this pin. Voltage swing at this pin is from VCC - VD to (See Datasheet)", 7 TG (out) "High Side Gate Driver Output (Top Gate). This pin swings between TS and BOOST.", 8 TS "High Side MOSFET Source Connection (TopSource)", 9 EP (power) "Ground. Must be soldered to PCB ground for optimal thermal performance."

## LTC4444MPMS8E#TRPBF
designator U?
High Voltage Synchronous N-Channel MOSFET Driver, 114 V Vin MAX, 8-pin SOP (MS8E-8-EDP), -55 to 150 degC, Pb-Free, Tape and Reel; Manufacturer: Linear Technology; PartNumber: LTC4444MPMS8E#TRPBF; DatasheetVersion: Rev. B; PackageVersion: Rev. J, 10/2011; PackageReference: MS8E-8; PackageDescription: 8-Pin Plastic MSOP, Body 3.00 x 3.00 mm. Pitch 0.65 mm; Supplier 1: Digi-Key; Supplier Part Number 1: LTC4444MPMS8E#TRPBF-ND; Packing: Tape and Reel; RoHS: TRUE; Mounting Technology: Surface Mount; ComponentLink1Description: Manufacturer URL; ComponentLink1URL: http://www.linear.com/; ComponentLink2Description: Datasheet; ComponentLink2URL: http://cds.linear.com/docs/en/datasheet/4444fb.pdf; ComponentLink3Description: Package Specification; ComponentLink3URL: http://cds.linear.com/docs/en/packaging/05081662_K_MS8E.pdf
footprint LT-MS8E-8-EDP_N (SOP, 8-Leads, Body 3.1x3.1mm, Pitch 0.65mm, Thermal Pad 1.88x1.68mm, IPC Medium Density)
footprint LT-MS8E-8-EDP_L (SOP, 8-Leads, Body 3.1x3.1mm, Pitch 0.65mm, Thermal Pad 1.88x1.68mm, IPC High Density)
footprint LT-MS8E-8-EDP_M (SOP, 8-Leads, Body 3.1x3.1mm, Pitch 0.65mm, Thermal Pad 1.88x1.68mm, IPC Low Density)
pins: 1 TINP (in) "High Side Input Signal. Input referenced to GND. This input controls the high side driver output (TG).", 2 BINP (in) "Low Side Input Signal. This input controls the low side driver output (BG).", 3 VCC (power) "Supply. This pin powers input buffers, logic and the low side gate driver output directly and the high side gate driver output through an external diode connected between this pin and BOOST (Pin 6). A low ESR ceramic bypass (See Datasheet)", 4 BG (out) "Low Side Gate Driver Output (Bottom Gate).This pin swings between VCC and GND.", 5 NC "No Connect. No connection required.", 6 BOOST "High Side Bootstrapped Supply. An external capacitor should be tied between this pin and TS (Pin 8). Normally, a bootstrap diode is connected between VCC (Pin 3) and this pin. Voltage swing at this pin is from VCC - VD to (See Datasheet)", 7 TG (out) "High Side Gate Driver Output (Top Gate). This pin swings between TS and BOOST.", 8 TS "High Side MOSFET Source Connection (TopSource)", 9 EP (power) "Ground. Must be soldered to PCB ground for optimal thermal performance."

## LTC4444MPMS8E-5
designator U?
High Voltage Synchronous N-Channel MOSFET Driver, 114 V Vin MAX, 8-pin SOP (MS8E-8-EDP), -55 to 150 degC; Manufacturer: Linear Technology; PartNumber: LTC4444MPMS8E-5; DatasheetVersion: Rev. C; PackageVersion: Rev. J, 10/2011; PackageReference: MS8E-8; PackageDescription: 8-Pin Plastic MSOP, Body 3.00 x 3.00 mm. Pitch 0.65 mm; RoHS: FALSE; Mounting Technology: Surface Mount; ComponentLink1Description: Manufacturer URL; ComponentLink1URL: http://www.linear.com/; ComponentLink2Description: Datasheet; ComponentLink2URL: http://cds.linear.com/docs/en/datasheet/44445fc.pdf; ComponentLink3Description: Package Specification; ComponentLink3URL: http://cds.linear.com/docs/en/packaging/05081662_K_MS8E.pdf
footprint LT-MS8E-8-EDP_N (SOP, 8-Leads, Body 3.1x3.1mm, Pitch 0.65mm, Thermal Pad 1.88x1.68mm, IPC Medium Density)
footprint LT-MS8E-8-EDP_L (SOP, 8-Leads, Body 3.1x3.1mm, Pitch 0.65mm, Thermal Pad 1.88x1.68mm, IPC High Density)
footprint LT-MS8E-8-EDP_M (SOP, 8-Leads, Body 3.1x3.1mm, Pitch 0.65mm, Thermal Pad 1.88x1.68mm, IPC Low Density)
pins: 1 TINP (in) "High Side Input Signal. Input referenced to GND. This input controls the high side driver output (TG).", 2 BINP (in) "Low Side Input Signal. This input controls the low side driver output (BG).", 3 VCC (power) "Supply. This pin powers input buffers, logic and the low side gate driver output directly and the high side gate driver output through an external diode connected between this pin and BOOST (Pin 6). A low ESR ceramic bypass (See Datasheet)", 4 BG (out) "Low Side Gate Driver Output (Bottom Gate).This pin swings between VCC and GND.", 5 NC "No Connect. No connection required.", 6 BOOST "High Side Bootstrapped Supply. An external capacitor should be tied between this pin and TS (Pin 8). Normally, a bootstrap diode is connected between VCC (Pin 3) and this pin. Voltage swing at this pin is from VCC - VD to (See Datasheet)", 7 TG (out) "High Side Gate Driver Output (Top Gate). This pin swings between TS and BOOST.", 8 TS "High Side MOSFET Source Connection (TopSource)", 9 EP (power) "Ground. Must be soldered to PCB ground for optimal thermal performance."

## LTC4444MPMS8E-5#PBF
designator U?
High Voltage Synchronous N-Channel MOSFET Driver, 114 V Vin MAX, 8-pin SOP (MS8E-8-EDP), -55 to 150 degC, Pb-Free; Manufacturer: Linear Technology; PartNumber: LTC4444MPMS8E-5#PBF; DatasheetVersion: Rev. C; PackageVersion: Rev. J, 10/2011; PackageReference: MS8E-8; PackageDescription: 8-Pin Plastic MSOP, Body 3.00 x 3.00 mm. Pitch 0.65 mm; Supplier 1: Digi-Key; Supplier Part Number 1: LTC4444MPMS8E-5#PBF-ND; Supplier 2: Newark; Supplier Part Number 2: 44P3989; RoHS: TRUE; Mounting Technology: Surface Mount; ComponentLink1Description: Manufacturer URL; ComponentLink1URL: http://www.linear.com/; ComponentLink2Description: Datasheet; ComponentLink2URL: http://cds.linear.com/docs/en/datasheet/44445fc.pdf; ComponentLink3Description: Package Specification; ComponentLink3URL: http://cds.linear.com/docs/en/packaging/05081662_K_MS8E.pdf
footprint LT-MS8E-8-EDP_N (SOP, 8-Leads, Body 3.1x3.1mm, Pitch 0.65mm, Thermal Pad 1.88x1.68mm, IPC Medium Density)
footprint LT-MS8E-8-EDP_L (SOP, 8-Leads, Body 3.1x3.1mm, Pitch 0.65mm, Thermal Pad 1.88x1.68mm, IPC High Density)
footprint LT-MS8E-8-EDP_M (SOP, 8-Leads, Body 3.1x3.1mm, Pitch 0.65mm, Thermal Pad 1.88x1.68mm, IPC Low Density)
pins: 1 TINP (in) "High Side Input Signal. Input referenced to GND. This input controls the high side driver output (TG).", 2 BINP (in) "Low Side Input Signal. This input controls the low side driver output (BG).", 3 VCC (power) "Supply. This pin powers input buffers, logic and the low side gate driver output directly and the high side gate driver output through an external diode connected between this pin and BOOST (Pin 6). A low ESR ceramic bypass (See Datasheet)", 4 BG (out) "Low Side Gate Driver Output (Bottom Gate).This pin swings between VCC and GND.", 5 NC "No Connect. No connection required.", 6 BOOST "High Side Bootstrapped Supply. An external capacitor should be tied between this pin and TS (Pin 8). Normally, a bootstrap diode is connected between VCC (Pin 3) and this pin. Voltage swing at this pin is from VCC - VD to (See Datasheet)", 7 TG (out) "High Side Gate Driver Output (Top Gate). This pin swings between TS and BOOST.", 8 TS "High Side MOSFET Source Connection (TopSource)", 9 EP (power) "Ground. Must be soldered to PCB ground for optimal thermal performance."